# Altium schematic symbol library SMD-PUSH-4Pins.SchLib: 1 symbol
Pins are listed as number, name and electrical type; pins without a type are passive.

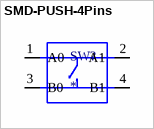
[diagram p0: symbol SMD-PUSH-4Pins]

## SMD-PUSH-4Pins
designator SW?
Switch Tactile N.O. SPST Button Gull Wing 0.05A 12VDC 3.43N SMD T/R; MF: ALPS; MP: SKQGAKE010; SnapEDA_Link: https://www.snapeda.com/parts/SKQGAKE010/ALPS/view-part/51324/?ref=snap; Price: None; Package: None; Value: *; Availability: Unavailable
footprint SMD-PUSH-4Pins
pins: 1 A0 (io), 2 A1 (io), 3 B0 (io), 4 B1 (io)